# Altium schematic symbol library EVQP7B01K.SchLib: 1 symbol
Pins are listed as number, name and electrical type; pins without a type are passive.

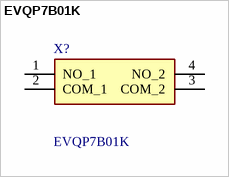
[diagram p0: symbol EVQP7B01K]

## EVQP7B01K
designator X?
Black Push Plate Tactile Switch, SPST-NO 50 mA 1.35mm; Manufacturer_Name: Panasonic; Manufacturer_Part_Number: EVQP7B01K; Mouser Part Number: *; Mouser Price/Stock: *; Arrow Part Number: *; Arrow Price/Stock: *; Datasheet Link: https://docs.rs-online.com/e556/0900766b810ad339.pdf; Geometry.Height: 1.35mm
footprint EVQP7B01K
pins: 1 NO_1, 2 COM_1, 3 COM_2, 4 NO_2